# Altium footprint library Passive.PcbLib: 57 footprints (part 3 of 4)
Each footprint in its own frame and in the unit in brackets; x right, y up, seen from the top. Pads: shape width x height; smd on the part's side, far side on the other; paste and mask are expansions set on the pad; w line width, h text height; cw(c..) or ccw(c..) is an arc to the next point about the centre after c.
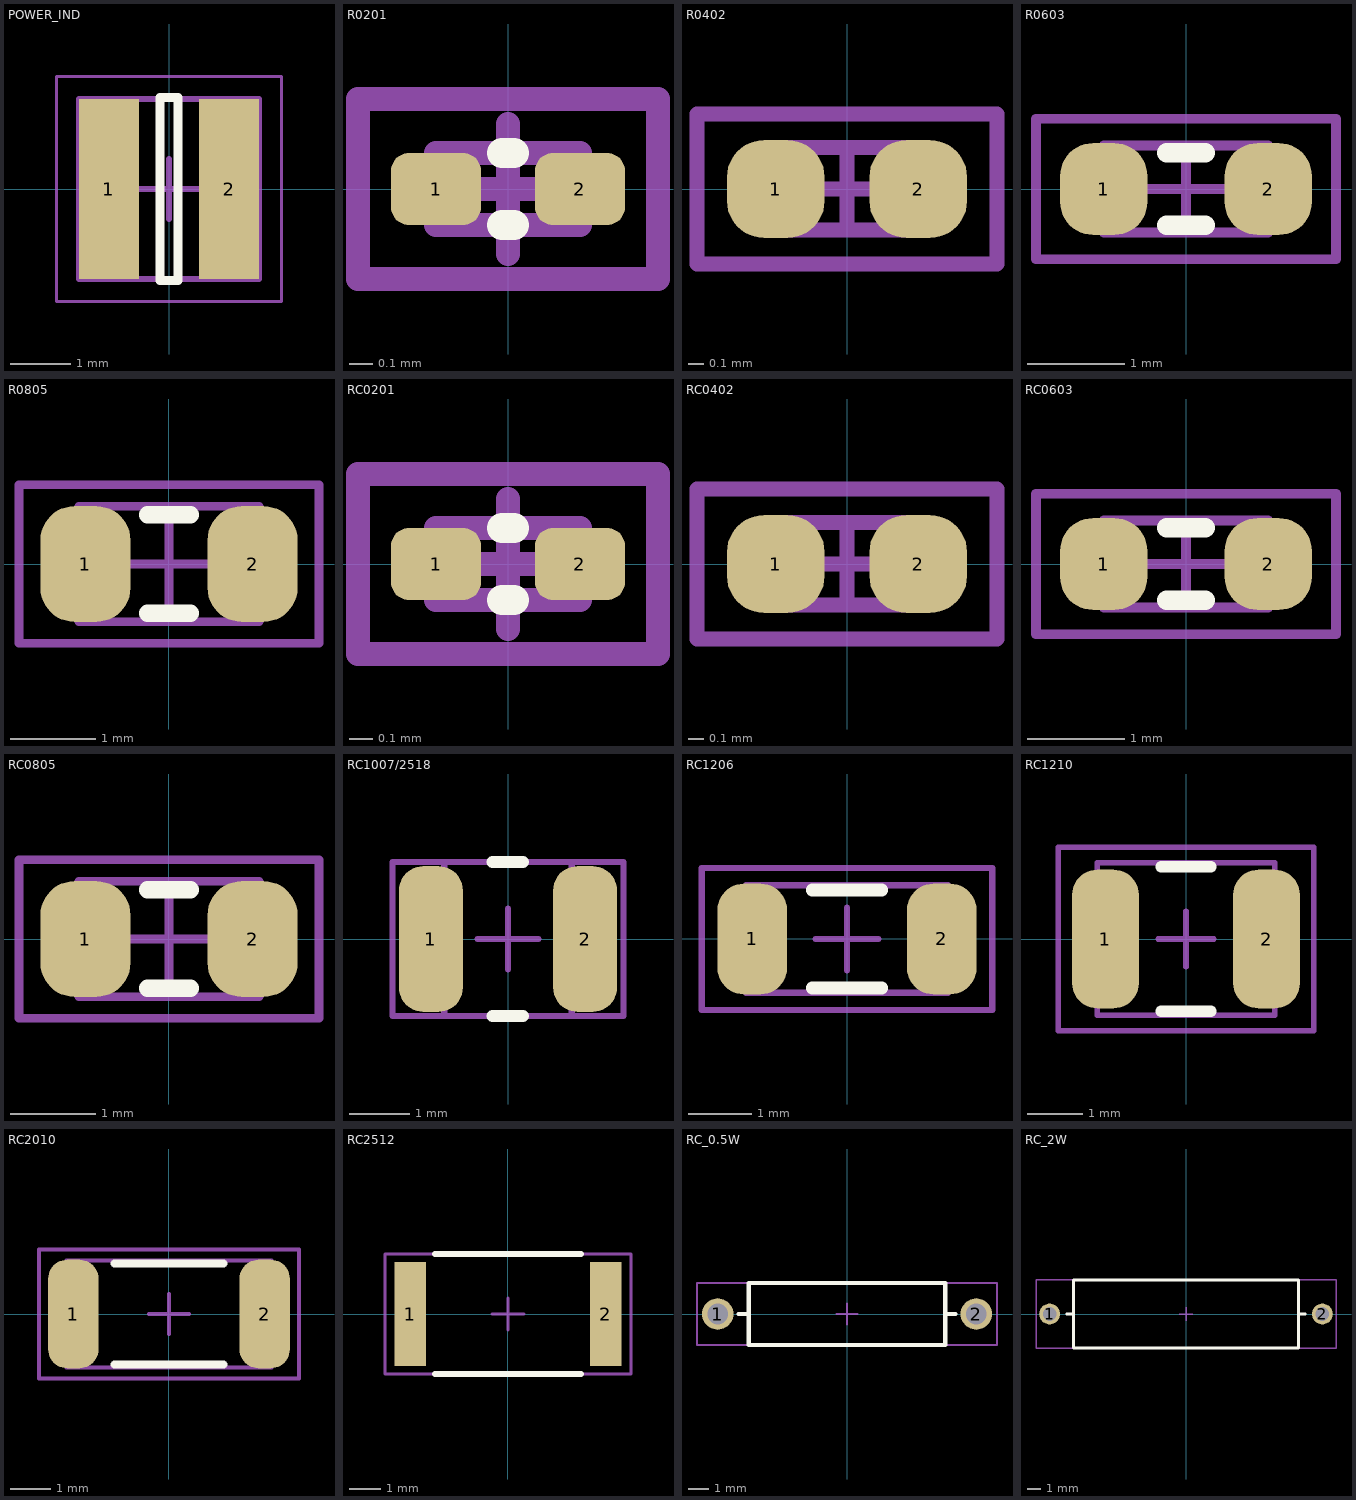
[diagram p2: the footprints below, top view; thin cyan lines are the x and y axes]

## POWER_IND [mm]
height 3
pads (2):
  rect 1x3 smd: 1(-1,0) 2(1,0)
Top Overlay:
  lines w0.15: -0.15,-1.525 0.15,-1.525 0.15,1.525 -0.15,1.525 -0.15,-1.525
Mechanical 13:
  lines w0.1: -1.5,-1.5 -1.5,1.5 1.5,1.5 1.5,-1.5 -1.5,-1.5
Mechanical 15:
  lines w0.05: -1.875,-1.875 -1.875,1.875 1.875,1.875 1.875,-1.875 -1.875,-1.875
  lines w0.1: -0.5,0 0.5,0 ; 0,-0.5 0,0.5
3D body: height 1.2, standoff 0, extent -1.5,-1.5 1.5,1.5

## R0201 [mil]
pads (2):
  rrect50% 15x12 smd: 1(-12,0) 2(12,0)
Top Overlay:
  lines w5: -1,-6 1,-6 ; -1,6 1,6
Mechanical 13:
  lines w3.94: -12,-6 12,-6 12,6 -12,6 -12,-6
  text ".Designator" at -70,20 h19.68
Mechanical 15:
  lines w3.94: -10.83,0 10.83,0 ; 0,-10.83 0,10.83 ; -25,-15 25,-15 25,15 -25,15 -25,-15
3D body: height 13.19, standoff 0, extent -13.4,-6.6 13.37,6.39

## R0402 [mm] "Chip Resistor, 2-Leads, Body 1.0x0.5mm, IPC High Density"
height 0.35
pads (2):
  rrect75% 0.65x0.65 smd: 1(-0.475,0) 2(0.475,0)
Mechanical 13:
  lines w0.1: -0.525,-0.275 0.525,-0.275 0.525,0.275 -0.525,0.275 -0.525,-0.275
  text ".Designator" at -1,0.5 h0.5
Mechanical 15:
  lines w0.1: -0.275,0 0.275,0 ; 0,-0.275 0,0.275 ; -1,-0.5 1,-0.5 1,0.5 -1,0.5 -1,-0.5
3D body: height 0.41, standoff 0, extent -0.575,-0.275 0.575,0.275

## R0603 [mm] "Chip Resistor, 2-Leads, Body 1.6x0.8mm, IPC Medium Density"
height 0.55
pads (2):
  rrect75% 0.9x0.95 smd: 1(-0.85,0) 2(0.85,0)
Top Overlay:
  lines w0.2: -0.2,-0.375 0.2,-0.375 ; -0.2,0.375 0.2,0.375
Mechanical 13:
  lines w0.1: -0.85,-0.45 -0.85,0.45 0.85,0.45 0.85,-0.45 -0.85,-0.45
  text ".Designator" at -1.1,0.7 h0.5
Mechanical 15:
  lines w0.1: -0.45,0 0.45,0 ; 0,-0.45 0,0.45 ; -1.55,-0.725 -1.55,0.725 1.55,0.725 1.55,-0.725 -1.55,-0.725
3D body: height 0.56, standoff 0, extent -0.825,-0.375 0.875,0.425

## R0805 [mm] "Chip Resistor, 2-Leads, Body 2.0x1.3mm, IPC Medium Density"
height 0.6
pads (2):
  rrect75% 1.05x1.35 smd: 1(-0.975,0) 2(0.975,0)
Top Overlay:
  lines w0.2: -0.25,-0.575 0.25,-0.575 ; -0.25,0.575 0.25,0.575
Mechanical 13:
  lines w0.1: -1.05,-0.675 -1.05,0.675 1.05,0.675 1.05,-0.675 -1.05,-0.675
  text ".Designator" at -1.3,0.9 h0.5
Mechanical 15:
  lines w0.1: -0.5,0 0.5,0 ; 0,-0.5 0,0.5 ; -1.75,-0.925 -1.75,0.925 1.75,0.925 1.75,-0.925 -1.75,-0.925
3D body: height 0.76, standoff 0, extent -1.145,-0.675 1.155,0.675

## RC0201 [mil]
pads (2):
  rrect50% 15x12 smd: 1(-12,0) 2(12,0)
Top Overlay:
  lines w5: -1,-6 1,-6 ; -1,6 1,6
Mechanical 13:
  lines w3.94: -12,-6 12,-6 12,6 -12,6 -12,-6
  text ".Designator" at -70,20 h19.68
Mechanical 15:
  lines w3.94: -10.83,0 10.83,0 ; 0,-10.83 0,10.83 ; -25,-15 25,-15 25,15 -25,15 -25,-15
3D body: height 13.78, standoff 0, extent -12,-6 12,6

## RC0402 [mm] "Chip Resistor, 2-Leads, Body 1.0x0.5mm, IPC High Density"
height 0.35
pads (2):
  rrect75% 0.65x0.65 smd: 1(-0.475,0) 2(0.475,0)
Mechanical 13:
  lines w0.1: -0.525,-0.275 -0.525,0.275 0.525,0.275 0.525,-0.275 -0.525,-0.275
  text ".Designator" at -1,0.5 h0.5
Mechanical 15:
  lines w0.1: -0.275,0 0.275,0 ; 0,-0.275 0,0.275 ; -1,-0.5 -1,0.5 1,0.5 1,-0.5 -1,-0.5
3D body: height 0.35, standoff 0, extent -0.525,-0.275 0.525,0.275

## RC0603 [mm] "Chip Resistor, 2-Leads, Body 1.6x0.8mm, IPC Medium Density"
height 0.55
pads (2):
  rrect75% 0.9x0.95 smd: 1(-0.85,0) 2(0.85,0)
Top Overlay:
  lines w0.2: -0.2,-0.375 0.2,-0.375 ; -0.2,0.375 0.2,0.375
Mechanical 13:
  lines w0.1: -0.85,-0.45 -0.85,0.45 0.85,0.45 0.85,-0.45 -0.85,-0.45
  text ".Designator" at -1.1,0.7 h0.5
Mechanical 15:
  lines w0.1: -0.45,0 0.45,0 ; 0,-0.45 0,0.45 ; -1.55,-0.725 -1.55,0.725 1.55,0.725 1.55,-0.725 -1.55,-0.725
3D body: height 0.55, standoff 0, extent -0.85,-0.45 0.85,0.45

## RC0805 [mm] "Chip Resistor, 2-Leads, Body 2.0x1.3mm, IPC Medium Density"
height 0.6
pads (2):
  rrect75% 1.05x1.35 smd: 1(-0.975,0) 2(0.975,0)
Top Overlay:
  lines w0.2: -0.25,-0.575 0.25,-0.575 ; -0.25,0.575 0.25,0.575
Mechanical 13:
  lines w0.1: -1.05,-0.675 -1.05,0.675 1.05,0.675 1.05,-0.675 -1.05,-0.675
  text ".Designator" at -1.3,0.9 h0.5
Mechanical 15:
  lines w0.1: -0.5,0 0.5,0 ; 0,-0.5 0,0.5 ; -1.75,-0.925 -1.75,0.925 1.75,0.925 1.75,-0.925 -1.75,-0.925
3D body: height 0.6, standoff 0, extent -1.05,-0.675 1.05,0.675

## RC1007/2518 [mm]
height 0.6
pads (2):
  rrect75% 1.05x2.4 smd: 1(-1.27,0) 2(1.27,0)
Top Overlay:
  lines w0.2: -0.254,-1.27 0.246,-1.27 ; -0.254,1.27 0.246,1.27
Mechanical 13:
  lines w0.1: -1.05,-1.27 1.05,-1.27 1.05,1.27 -1.05,1.27 -1.05,-1.27
  text ".Designator" at -1.778,1.651 h0.5
Mechanical 15:
  lines w0.1: -0.5,0 0.5,0 ; 0,-0.5 0,0.5 ; -1.905,-1.27 1.905,-1.27 1.905,1.27 -1.905,1.27 -1.905,-1.27
3D body: height 1, standoff 0, extent -1.05,-1.27 1.05,1.27

## RC1206 [mm] "Chip Resistor, 2-Leads, Body 3.1x1.6mm, IPC Medium Density"
height 0.65
pads (2):
  rrect75% 1.1x1.75 smd: 1(-1.5,0) 2(1.5,0)
Top Overlay:
  lines w0.2: -0.55,-0.775 0.55,-0.775 ; -0.55,0.775 0.55,0.775
Mechanical 13:
  lines w0.1: -1.6,-0.85 -1.6,0.85 1.6,0.85 1.6,-0.85 -1.6,-0.85
  text ".Designator" at -1.85,1.15 h0.5
Mechanical 15:
  lines w0.1: -0.5,0 0.5,0 ; 0,-0.5 0,0.5 ; -2.3,-1.125 -2.3,1.125 2.3,1.125 2.3,-1.125 -2.3,-1.125
3D body: height 0.65, standoff 0, extent -1.6,-0.85 1.6,0.85

## RC1210 [mm] "Chip Resistor, 2-Leads, Body 3.1x2.6mm, IPC Medium Density"
height 0.6
pads (2):
  rrect75% 1.2x2.5 smd: 1(-1.45,0) 2(1.45,0)
Top Overlay:
  lines w0.2: -0.45,-1.3 0.45,-1.3 ; -0.45,1.3 0.45,1.3
Mechanical 13:
  lines w0.1: -1.6,-1.375 1.6,-1.375 1.6,1.375 -1.6,1.375 -1.6,-1.375
  text ".Designator" at -1.65,1.65 h0.5
Mechanical 15:
  lines w0.1: -0.5,0 0.5,0 ; 0,-0.5 0,0.5 ; -2.3,-1.65 2.3,-1.65 2.3,1.65 -2.3,1.65 -2.3,-1.65
3D body: height 0.6, standoff 0, extent -1.6,-1.375 1.6,1.375

## RC2010 [mm] "Chip Resistor, 2-Leads, Body 5,0x2,5mm, IPC Medium Density"
height 0.65
pads (2):
  rrect75% 1.25x2.7 smd: 1(-2.375,0) 2(2.375,0)
Top Overlay:
  lines w0.2: -1.35,-1.25 1.35,-1.25 ; -1.35,1.25 1.35,1.25
Mechanical 13:
  lines w0.1: -2.55,-1.325 -2.55,1.325 2.55,1.325 2.55,-1.325 -2.55,-1.325
  text ".Designator" at -1.65,1.65 h0.5
Mechanical 15:
  lines w0.1: -0.5,0 0.5,0 ; 0,-0.5 0,0.5 ; -3.225,-1.6 -3.225,1.6 3.225,1.6 3.225,-1.6 -3.225,-1.6
3D body: height 0.65, standoff 0, extent -2.55,-1.325 2.55,1.325

## RC2512 [mm]
pads (2):
  rect 1x3.3 smd: 1(-3.1,0) 2(3.1,0)
Top Overlay:
  lines w0.2: -2.3,-1.9 2.3,-1.9 ; -2.3,1.9 2.3,1.9
Mechanical 13:
  lines w0.1: -3.9,-1.9 -3.9,1.9 3.9,1.9 3.9,-1.9 -3.9,-1.9
  text ".Designator" at -1.9,0.6 h0.5
Mechanical 15:
  lines w0.1: -0.5,0 0.5,0 ; 0,-0.5 0,0.5 ; -3.9,-1.9 -3.9,1.9 3.9,1.9 3.9,-1.9 -3.9,-1.9
3D body: height 0.65, standoff 0, extent -3.9,-1.9 3.9,1.9

## RC_0.5W [mm]
pads (2):
  round 1.524 hole 1: 1(-6.25,0) 2(6.25,0)
Top Overlay:
  lines w0.2: -5.25,0 -4.75,0 ; 4.75,0 5.25,0 ; -4.75,-1.5 -4.75,1.5 4.75,1.5 4.75,-1.5 -4.75,-1.5
Mechanical 13:
  lines w0.1: -4.75,-1.5 4.75,-1.5 4.75,1.5 -4.75,1.5 -4.75,-1.5
  text ".Designator" at -1.9,0.6 h0.5
Mechanical 15:
  lines w0.1: -0.5,0 0.5,0 ; 0,-0.5 0,0.5 ; -7.25,-1.5 7.25,-1.5 7.25,1.5 -7.25,1.5 -7.25,-1.5
3D body: height 3.6, standoff -1, extent -6.731,-1.5 6.731,1.357

## RC_2W [mm]
pads (2):
  round 1.524 hole 1: 1(-10,0) 2(10,0)
Top Overlay:
  lines w0.2: -8.75,0 -8.25,0 ; 8.25,0 8.75,0 ; -8.25,-2.5 8.25,-2.5 8.25,2.5 -8.25,2.5 -8.25,-2.5
Mechanical 13:
  lines w0.1: -8.25,-2.5 -8.25,2.5 8.25,2.5 8.25,-2.5 -8.25,-2.5
  text ".Designator" at -1.9,0.6 h0.5
Mechanical 15:
  lines w0.1: -0.5,0 0.5,0 ; 0,-0.5 0,0.5 ; -11,-2.5 -11,2.5 11,2.5 11,-2.5 -11,-2.5
3D body: height 5.5, standoff -1.7, extent -10.4,-2.5 10.4,2.5